# EAGLE library part MAX845 (library Traficon)
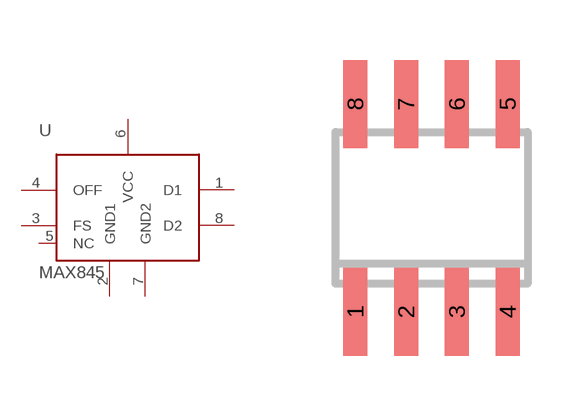
[diagram p7: symbol with the pads of SO08; footprint SO08]

Designator prefix -

## MAX845  [SO08]
1  D1  out
2  GND1  pas
3  FS  in
4  OFF  in
5  NC  pas
6  VCC  pas
7  GND2  pas
8  D2  out

## Footprint SO08 (pad centres in mm)
SMALL OUTLINE INTEGRATED CIRCUIT body 3.9 mm/JEDEC MS-012AA
smd 0.6 x 2.2: 1 -1.905,-2.6; 2 -0.635,-2.6; 3 0.635,-2.6; 4 1.905,-2.6; 5 1.905,2.6; 6 0.635,2.6; 7 -0.635,2.6; 8 -1.905,2.6